# EAGLE library part MSP430G2452 (library Rohit_Libs)
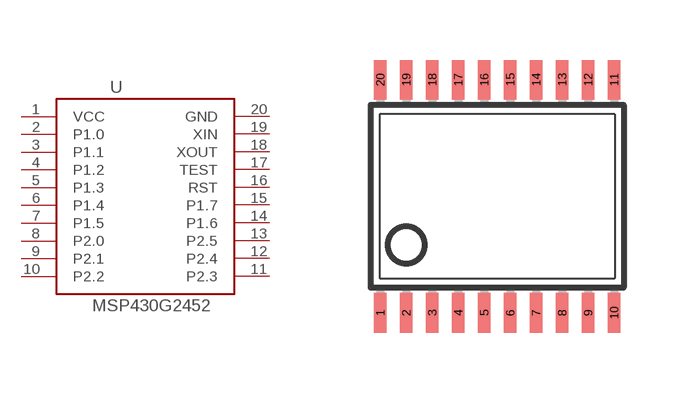
[diagram p6: symbol with the pads of TSSOP20; footprint TSSOP20]

Designator prefix -

## MSP430G2452  [TSSOP20]
1  VCC  pwr
2  P1.0  pas
3  P1.1  pas
4  P1.2  pas
5  P1.3  pas
6  P1.4  pas
7  P1.5  pas
8  P2.0  pas
9  P2.1  pas
10  P2.2  pas
11  P2.3  pas
12  P2.4  pas
13  P2.5  pas
14  P1.6  pas
15  P1.7  pas
16  RST  pas
17  TEST  pas
18  XOUT  pas
19  XIN  pas
20  GND  pwr

## Footprint TSSOP20 (pad centres in mm)
Thin Shrink Small Outline Plastic 20 MAX3223-MAX3243.pdf
smd 0.305 x 0.991: 1 -2.925,-2.918; 2 -2.275,-2.918; 3 -1.625,-2.918; 4 -0.975,-2.918; 5 -0.325,-2.918; 6 0.325,-2.918; 7 0.975,-2.918; 8 1.625,-2.918; 9 2.275,-2.918; 10 2.925,-2.918; 11 2.925,2.918; 12 2.275,2.918; 13 1.625,2.918; 14 0.975,2.918; 15 0.325,2.918; 16 -0.325,2.918; 17 -0.975,2.918; 18 -1.625,2.918; 19 -2.275,2.918; 20 -2.925,2.918